# Altium schematic symbol library BC817-40LT3G.SchLib: 1 symbol
Pins are listed as number, name and electrical type; pins without a type are passive.

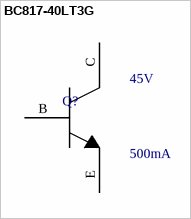
[diagram p0: symbol BC817-40LT3G]

## BC817-40LT3G
designator Q?  Voltage: 45V  Current: 500mA  (hidden comment: BC817-40LT3G)
TRANSISTORS (NPN/PNP) NPN 500MA 45V SOT-23(SOT-23-3) ROHS; Manufacturer: ON Semicon; ComponentLink1Description: Datasheet; ComponentLink1URL: https://datasheet.lcsc.com/szlcsc/ON-Semicon-ON-BC817-40LT3G_C146798.pdf; MFR. Part #: BC817-40LT3G; LCSC Part #: C146798; Package: SOT-23-3
footprint PCBComponent_1
pins: B "TRANS NPN 45V 0.1A TO-92", C, E